# Altium footprint library USB.PcbLib: 17 footprints (part 2 of 2)
Each footprint in its own frame and in the unit in brackets; x right, y up, seen from the top. Pads: shape width x height; smd on the part's side, far side on the other; paste and mask are expansions set on the pad; w line width, h text height; cw(c..) or ccw(c..) is an arc to the next point about the centre after c.
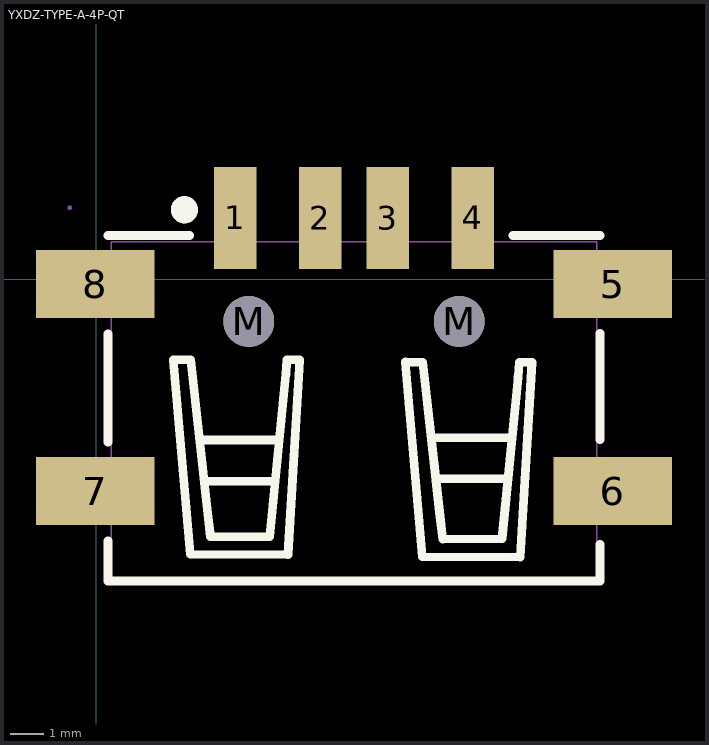
[diagram p1: the footprint, top view; thin cyan lines are the x and y axes]

## YXDZ-TYPE-A-4P-QT [mm] "优信电子售卖的 Type-A 母 卧贴 4PIN 推荐焊盘 10.0 四角贴片 卷边"
pads (10):
  rect 1.25x3 smd: 1(4.097,1.81) 2(6.597,1.81) 3(8.597,1.81) 4(11.097,1.81)
  rect 3.5x2 smd: 5(15.222,-0.14) 6(15.222,-6.24) 7(-0.028,-6.24) 8(-0.028,-0.14)
  round 1.5 hole 1.5 unplated mask+0: M(4.497,-1.24) M(10.697,-1.24)
Top Overlay:
  circle w0.4: c2.6,2.05 r0.2
  lines w0.254: 0.347,-7.703 0.347,-8.89 14.847,-8.89 14.847,-7.815 ; 0.347,-4.792 0.35,-1.6 ; 0.347,1.291 2.75,1.291 ; 3.111,-4.735 5.372,-4.735 ; 3.251,-5.945 5.281,-5.945 ; 9.961,-4.664 12.221,-4.664 ; 10.101,-5.874 12.131,-5.874 ; 12.275,1.291 14.847,1.291 ; 14.847,-4.725 14.847,-1.585 ; 2.274,-2.368 2.769,-8.103 5.652,-8.114 6.002,-2.371 5.622,-2.371 5.592,-2.801 5.118,-7.58 3.368,-7.59 3.293,-6.912 2.783,-2.372 2.274,-2.368 ; 9.113,-2.438 9.608,-8.173 12.491,-8.184 12.841,-2.441 12.461,-2.441 12.431,-2.871 11.957,-7.649 10.207,-7.66 10.132,-6.982 9.622,-2.441 9.113,-2.438
Mechanical 6:
  circle w0.4: c2.6,2.05 r0.2
Mechanical 15:
  region: 3.847,2.11 4.347,2.11 4.347,0.91 3.847,0.91
  region: 6.347,2.11 6.847,2.11 6.847,0.91 6.347,0.91
  region: 8.347,2.11 8.847,2.11 8.847,0.91 8.347,0.91
  region: 10.847,2.11 11.347,2.11 11.347,0.91 10.847,0.91
  region: 0.722,-6.74 -0.778,-6.74 -0.778,-5.74 0.722,-5.74
  region: 0.722,-0.64 -0.778,-0.64 -0.778,0.36 0.722,0.36
  region: 15.972,-0.64 14.472,-0.64 14.472,0.36 15.972,0.36
  region: 15.972,-6.74 14.472,-6.74 14.472,-5.74 15.972,-5.74
  region: -0.718,2.11 -0.718,2.085 -0.753,2.05 -0.803,2.05 -0.838,2.085 -0.838,2.11 -0.838,2.135 -0.803,2.17 -0.753,2.17 -0.718,2.135
  lines w0.051: 0.447,-8.89 0.447,1.11 14.747,1.11 14.747,-8.89 0.447,-8.89
3D body "TYPE-A-4P-QT.STEP": height 6.95, standoff -0.6, extent -0.425,-8.57 15.575,2.83